# EAGLE library part AG1170* (library princessPhone)
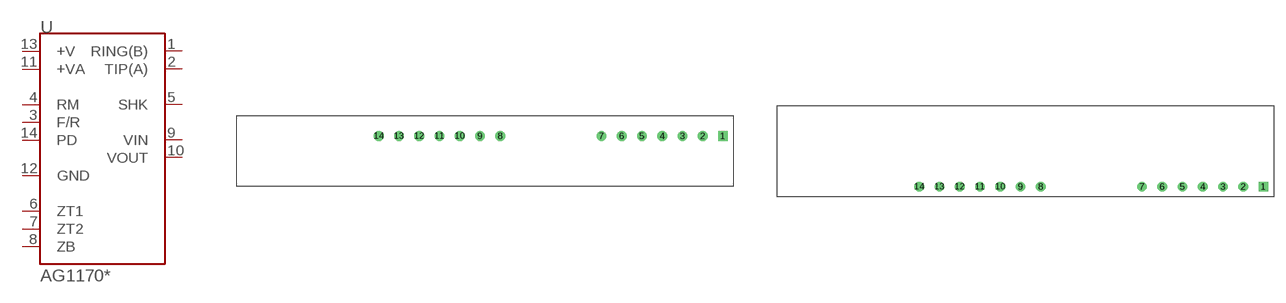
[diagram p0: symbol with the pads of AG1170X-S; footprints AG1170X-S, AG1170X-S-HORIZONTAL]

Designator prefix U

## AG1170-S3-VERTICAL, AG1170-S5-VERTICAL, AG1170P-S3-VERTICAL, AG1170P-S5-VERTICAL  [AG1170X-S]
1  RING(B)
2  TIP(A)
3  F/R
4  RM
5  SHK
6  ZT1
7  ZT2
8  ZB
9  VIN
10  VOUT
11  +VA
12  GND
13  +V
14  PD

## AG1170-HORIZONTAL  [AG1170X-S-HORIZONTAL]
Pads as for AG1170X-S

## Footprint AG1170X-S (pad centres in mm)
drill 0.711 square: 1 21.59,0
drill 0.711: 2 19.05,0; 3 16.51,0; 4 13.97,0; 5 11.43,0; 6 8.89,0; 7 6.35,0; 8 -6.35,0; 9 -8.89,0; 10 -11.43,0; 11 -13.97,0; 12 -16.51,0; 13 -19.05,0; 14 -21.59,0

## Footprint AG1170X-S-HORIZONTAL (pad centres in mm)
drill 0.711 square: 1 21.59,0
drill 0.711: 2 19.05,0; 3 16.51,0; 4 13.97,0; 5 11.43,0; 6 8.89,0; 7 6.35,0; 8 -6.35,0; 9 -8.89,0; 10 -11.43,0; 11 -13.97,0; 12 -16.51,0; 13 -19.05,0; 14 -21.59,0